# Altium footprint library Conn_Molex_67068-8000_eec_0.PcbLib: 1 footprints
Each footprint in its own frame and in the unit in brackets; x right, y up, seen from the top. Pads: shape width x height; smd on the part's side, far side on the other; paste and mask are expansions set on the pad; w line width, h text height; cw(c..) or ccw(c..) is an arc to the next point about the centre after c.
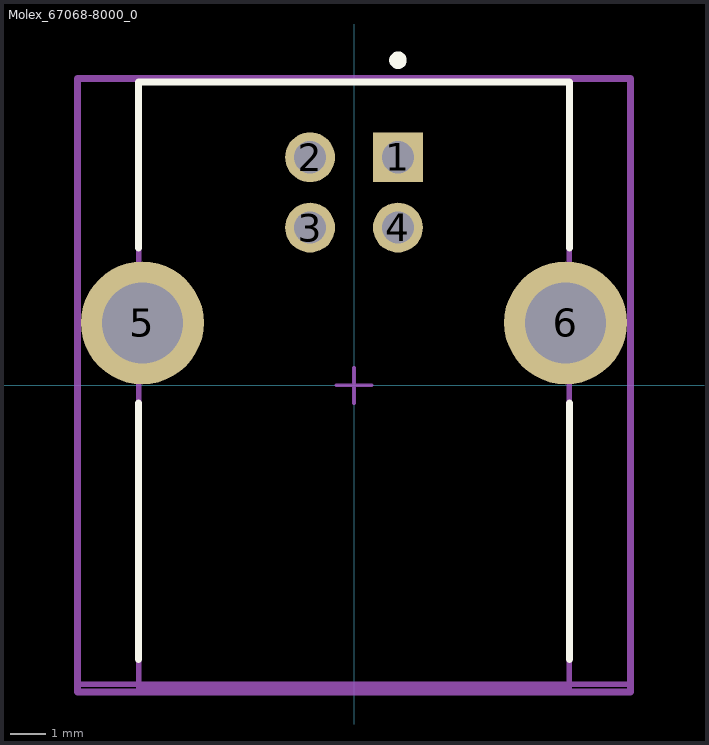
[diagram p0: the footprint, top view; thin cyan lines are the x and y axes]

## Molex_67068-8000_0 [mm]
pads (6):
  rect 1.42x1.42 hole 0.92 paste-1000 mask+0: 1(1.25,6.49)
  round 1.42 hole 0.92 paste-1000 mask+0: 2(-1.25,6.49) 3(-1.25,4.49) 4(1.25,4.49)
  round 3.5 hole 2.3 paste-1000 mask+0: 5(-6.02,1.78) 6(6.02,1.78)
Top Overlay:
  circle w0.25: c1.25,9.25 r0.125
  lines w0.2: -6.125,-7.8 -6.125,-0.5 ; -6.125,3.905 -6.125,8.625 6.125,8.625 6.125,3.905 ; 6.125,-7.8 6.125,-0.5
Mechanical 10:
  lines w0.2: -7.87,-8.725 7.87,-8.725 7.87,8.725 -7.87,8.725 -7.87,-8.725
  text ".Designator" at 0,0 h1
Mechanical 12:
  lines w0.15: -7.87,-8.5 7.87,-8.5 ; -6.125,-8.625 6.125,-8.625 6.125,8.625 -6.125,8.625 -6.125,-8.625
Mechanical 15:
  lines w0.1: -0.5,0 0.5,0 ; 0,-0.5 0,0.5
  lines w0.2: -7.87,-8.725 7.87,-8.725 7.87,8.725 -7.87,8.725 -7.87,-8.725
3D body "Conn_Molex_67068-8000_eec.STEP": height 0.25, standoff 0, extent -7.87,-8.725 7.87,8.725